# Altium footprint library Analog Devices Footprints.PcbLib: 248 footprints (part 2 of 16)
Each footprint in its own frame and in the unit in brackets; x right, y up, seen from the top. Pads: shape width x height; smd on the part's side, far side on the other; paste and mask are expansions set on the pad; w line width, h text height; cw(c..) or ccw(c..) is an arc to the next point about the centre after c.
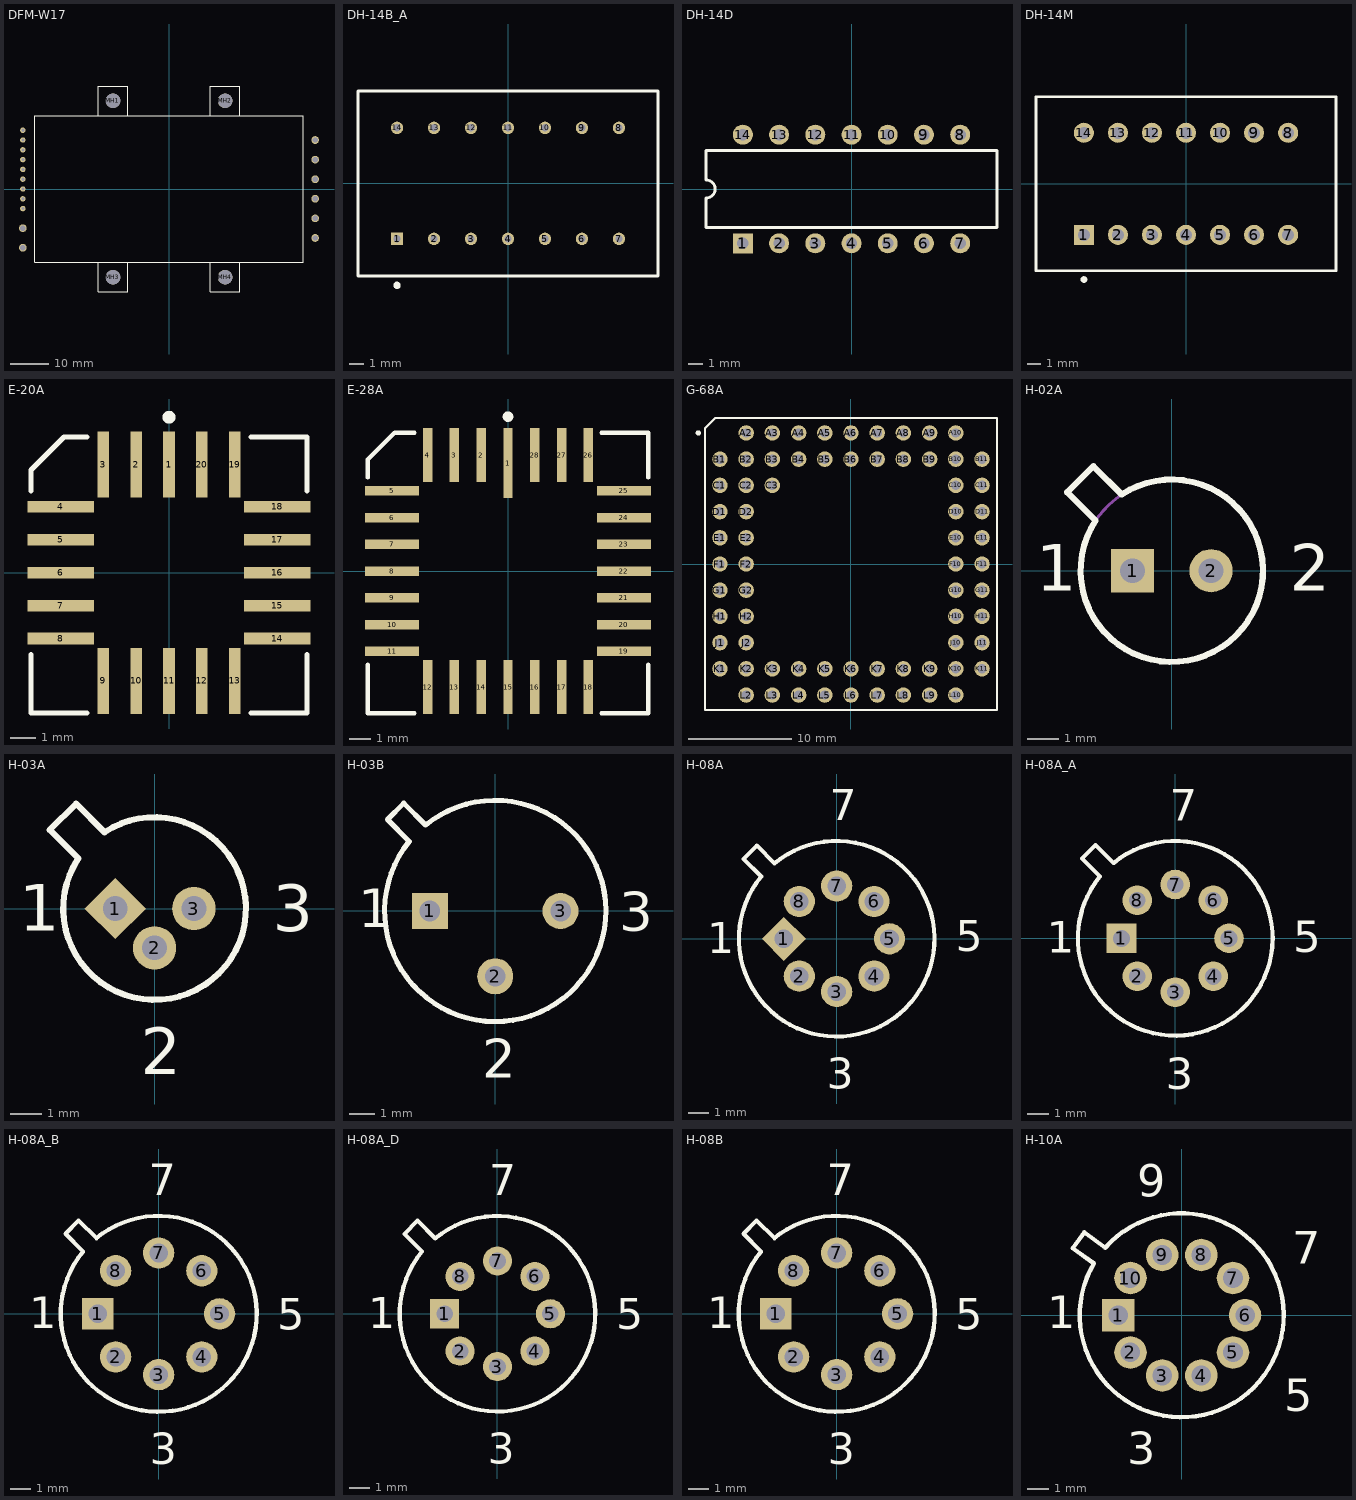
[diagram p1: the footprints below, top view; thin cyan lines are the x and y axes]

## DFM-W17 [mm] "DC/DC Converter; 17 pins; Body 70 x 38 mm"
height 10.16
pads (21):
  round 1.4 hole 0.8: 1(-37.91,15.24) 2(-37.91,12.7) 3(-37.91,10.16) 4(-37.91,7.62) 5(-37.91,5.08) 6(-37.91,2.54) 7(-37.91,0) 8(-37.91,-2.54) 9(-37.91,-5.08)
  round 2 hole 1.4: 10(-37.91,-10.16) 11(-37.91,-15.24) 12(37.91,-12.7) 13(37.91,-7.62) 14(37.91,-2.54) 15(37.91,2.54) 16(37.91,7.62) 17(37.91,12.7)
  round 3.78 hole 3.78 unplated: MH1(-14.53,22.86) MH2(14.54,22.86) MH3(-14.53,-22.86) MH4(14.54,-22.86)
Top Overlay:
  lines w0.2: -18.34,-19.05 -18.34,-26.67 -10.72,-26.67 -10.72,-19.05 ; -18.34,19.05 -18.34,26.67 -10.72,26.67 -10.72,19.05 ; 10.73,-19.05 10.73,-26.67 18.35,-26.67 18.35,-19.05 ; 10.73,19.05 10.73,26.67 18.2,26.67 ; 18.35,19.05 18.35,26.67 ; -34.86,-19.05 -34.86,19.05 34.86,19.05 34.86,-19.05 -34.86,-19.05

## DH-14B_A [mm] "DIP; 14 Rectangular Pins; Row Space 7.62 mm; Pitch 2.54 mm"
height 5.34
pads (14):
  rect 0.85x0.85 hole 0.5: 1(-7.62,-3.81)
  round 0.85 hole 0.5: 2(-5.08,-3.81) 3(-2.54,-3.81) 4(0,-3.81) 5(2.54,-3.81) 6(5.08,-3.81) 7(7.62,-3.81) 8(7.62,3.81) 9(5.08,3.81) 10(2.54,3.81) 11(0,3.81) 12(-2.54,3.81) 13(-5.08,3.81) 14(-7.62,3.81)
Top Overlay:
  circle w0.25: c-7.62,-7 r0.125
  lines w0.2: -10.3,-6.35 -10.3,-0.635 -10.3,6.35 10.3,6.35 10.3,-6.35 -10.3,-6.35

## DH-14D [mm] "DIP; 14 Leads; Row Spacing 7.62 mm; Pitch 2.54 mm"
height 5.08
pads (14):
  rect 1.4x1.4 hole 0.8: 1(-7.62,-3.81)
  round 1.4 hole 0.8: 2(-5.08,-3.81) 3(-2.54,-3.81) 4(0,-3.81) 5(2.54,-3.81) 6(5.08,-3.81) 7(7.62,-3.81) 8(7.62,3.81) 9(5.08,3.81) 10(2.54,3.81) 11(0,3.81) 12(-2.54,3.81) 13(-5.08,3.81) 14(-7.62,3.81)
Top Overlay:
  lines w0.2: -10.2,-2.7 10.2,-2.7 10.2,2.7 -10.2,2.7 -10.2,0.635 cw(c-10.2,0) -10.2,-0.635 -10.2,-2.7

## DH-14M [mm] "DIP; 14 Round Pins; Row Space 7.62 mm; Pitch 2.54 mm"
height 5.59
pads (14):
  rect 1.5x1.5 hole 0.9: 1(-7.62,-3.81)
  round 1.5 hole 0.9: 2(-5.08,-3.81) 3(-2.54,-3.81) 4(0,-3.81) 5(2.54,-3.81) 6(5.08,-3.81) 7(7.62,-3.81) 8(7.62,3.81) 9(5.08,3.81) 10(2.54,3.81) 11(0,3.81) 12(-2.54,3.81) 13(-5.08,3.81) 14(-7.62,3.81)
Top Overlay:
  circle w0.25: c-7.62,-7.15 r0.125
  lines w0.2: -11.2,-6.5 -11.2,-0.635 -11.2,6.5 11.2,6.5 11.2,-6.5 -11.2,-6.5

## E-20A [mm] "Leadless Chip Carrier; 20 Terminals; Body 8.9 x 8.9 mm"
height 2.54
pads (20):
  rect 0.45x2.55 smd: 1(0,4.175) 2(-1.27,4.175) 3(-2.54,4.175) 9(-2.54,-4.175) 10(-1.27,-4.175) 11(0,-4.175) 12(1.27,-4.175) 13(2.54,-4.175) 19(2.54,4.175) 20(1.27,4.175)
  rect 2.55x0.45 smd: 4(-4.175,2.54) 5(-4.175,1.27) 6(-4.175,0) 7(-4.175,-1.27) 8(-4.175,-2.54) 14(4.175,-2.54) 15(4.175,-1.27) 16(4.175,0) 17(4.175,1.27) 18(4.175,2.54)
Top Overlay:
  circle w0.25: c0,6 r0.125
  lines w0.2: -5.325,-3.165 -5.325,-5.413 -3.165,-5.413 ; -5.325,3.165 -5.325,3.962 -4.05,5.238 -3.165,5.238 ; 3.165,-5.413 5.325,-5.413 5.325,-3.165 ; 3.165,5.238 5.325,5.238 5.325,3.165

## E-28A [mm] "Leadless Chip Carrier; 28 Terminals; Body 11.4 x 11.4 mm"
height 2.54
pads (28):
  rect 0.45x3.3 smd: 1(0,5.125)
  rect 0.45x2.55 smd: 2(-1.27,5.5) 3(-2.54,5.5) 4(-3.81,5.5) 12(-3.81,-5.5) 13(-2.54,-5.5) 14(-1.27,-5.5) 15(0,-5.5) 16(1.27,-5.5) 17(2.54,-5.5) 18(3.81,-5.5) 26(3.81,5.5) 27(2.54,5.5) 28(1.27,5.5)
  rect 2.55x0.45 smd: 5(-5.5,3.81) 6(-5.5,2.54) 7(-5.5,1.27) 8(-5.5,0) 9(-5.5,-1.27) 10(-5.5,-2.54) 11(-5.5,-3.81) 19(5.5,-3.81) 20(5.5,-2.54) 21(5.5,-1.27) 22(5.5,0) 23(5.5,1.27) 24(5.5,2.54) 25(5.5,3.81)
Top Overlay:
  circle w0.25: c0,7.325 r0.125
  lines w0.2: -6.65,-4.435 -6.65,-6.737 -4.435,-6.737 ; -6.65,4.435 -6.65,5.288 -5.375,6.563 -4.435,6.562 ; 4.435,-6.737 6.65,-6.737 6.65,-4.435 ; 4.435,6.562 6.65,6.562 6.65,4.435

## G-68A [mm] "69-Pin Pin Grid Array 2.54 mm Pitch"
height 3.65
pads (69):
  round 1.5 hole 0.9: A2(-10.16,12.7) A3(-7.62,12.7) A4(-5.08,12.7) A5(-2.54,12.7) A6(0,12.7) A7(2.54,12.7) A8(5.08,12.7) A9(7.62,12.7) A10(10.16,12.7) B1(-12.7,10.16) B2(-10.16,10.16) B3(-7.62,10.16) B4(-5.08,10.16) B5(-2.54,10.16) B6(0,10.16) B7(2.54,10.16) B8(5.08,10.16) B9(7.62,10.16) B10(10.16,10.16) B11(12.7,10.16) C1(-12.7,7.62) C2(-10.16,7.62) C3(-7.62,7.62) C10(10.16,7.62) C11(12.7,7.62) D1(-12.7,5.08) D2(-10.16,5.08) D10(10.16,5.08) D11(12.7,5.08) E1(-12.7,2.54) E2(-10.16,2.54) E10(10.16,2.54) E11(12.7,2.54) F1(-12.7,0) F2(-10.16,0) F10(10.16,0) F11(12.7,0) G1(-12.7,-2.54) G2(-10.16,-2.54) G10(10.16,-2.54) G11(12.7,-2.54) H1(-12.7,-5.08) H2(-10.16,-5.08) H10(10.16,-5.08) H11(12.7,-5.08) J1(-12.7,-7.62) J2(-10.16,-7.62) J10(10.16,-7.62) J11(12.7,-7.62) K1(-12.7,-10.16) K2(-10.16,-10.16) K3(-7.62,-10.16) K4(-5.08,-10.16) K5(-2.54,-10.16) K6(0,-10.16) K7(2.54,-10.16) K8(5.08,-10.16) K9(7.62,-10.16) K10(10.16,-10.16) K11(12.7,-10.16) L2(-10.16,-12.7) L3(-7.62,-12.7) L4(-5.08,-12.7) L5(-2.54,-12.7) L6(0,-12.7) L7(2.54,-12.7) L8(5.08,-12.7) L9(7.62,-12.7) L10(10.16,-12.7)
Top Overlay:
  circle w0.25: c-14.8,12.7 r0.125
  lines w0.2: -14.15,-14.15 -14.15,13.15 -13.15,14.15 14.15,14.15 14.15,-14.15 -14.15,-14.15

## H-02A [mm] "Can; 2 Leads; Pin Circle Dia. 2.54 mm; Lead Dia. 0.48 mm (max)"
height 3.81
pads (2):
  rect 1.4x1.4 hole 0.8: 1(-1.27,0)
  round 1.4 hole 0.8: 2(1.27,0)
Top Overlay:
  lines w0.2: -3.386,2.537 -2.537,3.386 -1.618,2.467 cw(c0,0) -2.467,1.618 -3.386,2.537
  text "2" at 3.813,-0.645 h1.5
  text "1" at -4.393,-0.645 h1.5
Mechanical 4:
  circle w0.1: c0,0 r2.95

## H-03A [mm] "Can; 3 Leads; Pin Circle Dia. 2.54 mm; Lead Dia. 0.48 mm (max)"
height 3.81
pads (3):
  rect 1.4x1.4 hole 0.8 rot 45: 1(-1.27,0)
  round 1.4 hole 0.8: 2(0,-1.27) 3(1.27,0)
Top Overlay:
  lines w0.2: -3.386,2.537 -2.467,1.618 ccw(c0,0) -1.618,2.467 -2.537,3.386 -3.386,2.537
  text "3" at 3.812,-0.742 h1.5
  text "2" at -0.443,-5.355 h1.5
  text "1" at -4.38,-0.719 h1.5

## H-03B [mm] "Can; 3 Leads; Pin Circle Dia. 5.08 mm; Lead Dia. 0.48 mm (max)"
height 4.7
pads (3):
  rect 1.4x1.4 hole 0.8: 1(-2.54,0)
  round 1.4 hole 0.8: 2(0,-2.54) 3(2.54,0)
Top Overlay:
  lines w0.2: -4.191,3.554 -3.342,2.706 ccw(c0,0) -2.706,3.342 -3.554,4.19 -4.19,3.554
  text "3" at 4.826,-0.762 h1.5
  text "2" at -0.508,-6.477 h1.5
  text "1" at -5.334,-0.635 h1.5

## H-08A [mm] "Can; 8 Leads; Pin Circle Dia. 5.08 mm; Lead Dia. 0.53 mm (max)"
height 4.7
pads (8):
  rect 1.5x1.5 hole 0.9 rot 45: 1(-2.54,0)
  round 1.5 hole 0.9: 2(-1.796,-1.796) 3(0,-2.54) 4(1.796,-1.796) 5(2.54,0) 6(1.796,1.796) 7(0,2.54) 8(-1.796,1.796)
Top Overlay:
  lines w0.2: -4.475,3.838 -3.838,4.475 -2.99,3.626 cw(c0,0) -3.626,2.99 -4.475,3.838
  text "1" at -6.22,-0.696 h1.5
  text "3" at -0.469,-7.22 h1.5
  text "5" at 5.712,-0.589 h1.5
  text "7" at -0.332,5.7 h1.5

## H-08A_A [mm] "Can; 8 Leads; Pin Circle Dia. 5.08 mm; Lead Dia. 0.48 mm (max)"
height 6.6
pads (8):
  rect 1.4x1.4 hole 0.8: 1(-2.54,0)
  round 1.4 hole 0.8: 2(-1.796,-1.796) 3(0,-2.54) 4(1.796,-1.796) 5(2.54,0) 6(1.796,1.796) 7(0,2.54) 8(-1.796,1.796)
Top Overlay:
  lines w0.2: -4.404,3.767 -3.767,4.404 -2.919,3.555 cw(c0,0) -3.555,2.919 -4.404,3.767
  text "7" at -0.261,5.552 h1.5
  text "5" at 5.582,-0.66 h1.5
  text "3" at -0.455,-7.118 h1.5
  text "1" at -6.067,-0.678 h1.5

## H-08A_B [mm] "Can; 8 Leads; Pin Circle Dia. 5.84 mm; Lead Dia. 0.53 mm (max)"
height 4.7
pads (8):
  rect 1.5x1.5 hole 0.9: 1(-2.92,0)
  round 1.5 hole 0.9: 2(-2.065,-2.065) 3(0,-2.92) 4(2.065,-2.065) 5(2.92,0) 6(2.065,2.065) 7(0,2.92) 8(-2.065,2.065)
Top Overlay:
  lines w0.2: -4.475,3.838 -3.626,2.99 ccw(c0,0) -2.99,3.626 -3.838,4.475 -4.475,3.838
  text "7" at -0.472,5.683 h1.5
  text "5" at 5.691,-0.769 h1.5
  text "3" at -0.436,-7.201 h1.5
  text "1" at -6.204,-0.697 h1.5

## H-08A_D [mm] "Can; 8 Leads; Pin Circle Dia. 5.08 mm; Lead Dia. 0.48 mm (max)"
height 5.84
pads (8):
  rect 1.4x1.4 hole 0.8: 1(-2.54,0)
  round 1.4 hole 0.8: 2(-1.796,-1.796) 3(0,-2.54) 4(1.796,-1.796) 5(2.54,0) 6(1.796,1.796) 7(0,2.54) 8(-1.796,1.796)
Top Overlay:
  lines w0.2: -4.475,3.838 -3.838,4.475 -2.99,3.626 cw(c0,0) -3.626,2.99 -4.475,3.838
  text "1" at -6.201,-0.697 h1.5
  text "3" at -0.469,-7.22 h1.5
  text "5" at 5.713,-0.751 h1.5
  text "7" at -0.397,5.7 h1.5

## H-08B [mm] "Can; 8 Leads; Pin Circle Dia. 5.84 mm; Lead Dia. 0.53 mm (max)"
height 4.7
pads (8):
  rect 1.5x1.5 hole 0.9: 1(-2.92,0)
  round 1.5 hole 0.9: 2(-2.065,-2.065) 3(0,-2.92) 4(2.065,-2.065) 5(2.92,0) 6(2.065,2.065) 7(0,2.92) 8(-2.065,2.065)
Top Overlay:
  lines w0.2: -4.475,3.838 -3.626,2.99 ccw(c0,0) -2.99,3.626 -3.838,4.475 -4.475,3.838
  text "7" at -0.472,5.683 h1.5
  text "5" at 5.691,-0.769 h1.5
  text "3" at -0.436,-7.201 h1.5
  text "1" at -6.204,-0.697 h1.5

## H-10A [mm] "Can; 10 Leads; Pin Circle Dia. 5.84 mm; Lead Dia. 0.53 mm (max)"
height 4.7
pads (10):
  rect 1.5x1.5 hole 0.9: 1(-2.92,0)
  round 1.5 hole 0.9: 2(-2.362,-1.716) 3(-0.902,-2.777) 4(0.902,-2.777) 5(2.362,-1.716) 6(2.92,0) 7(2.362,1.716) 8(0.902,2.777) 9(-0.902,2.777) 10(-2.362,1.716)
Top Overlay:
  lines w0.2: -4.049,2.386 -5.02,3.091 -4.491,3.819 -3.52,3.114 cw(c0,0) -4.049,2.386
  text "1" at -6.207,-0.592 h1.5
  text "3" at -2.511,-6.856 h1.5
  text "5" at 4.736,-4.434 h1.5
  text "7" at 5.1,2.376 h1.5
  text "9" at -2.056,5.471 h1.5